# Altium schematic symbol library SIM908.SCHLIB: 1 symbol
Pins are listed as number, name and electrical type; pins without a type are passive.

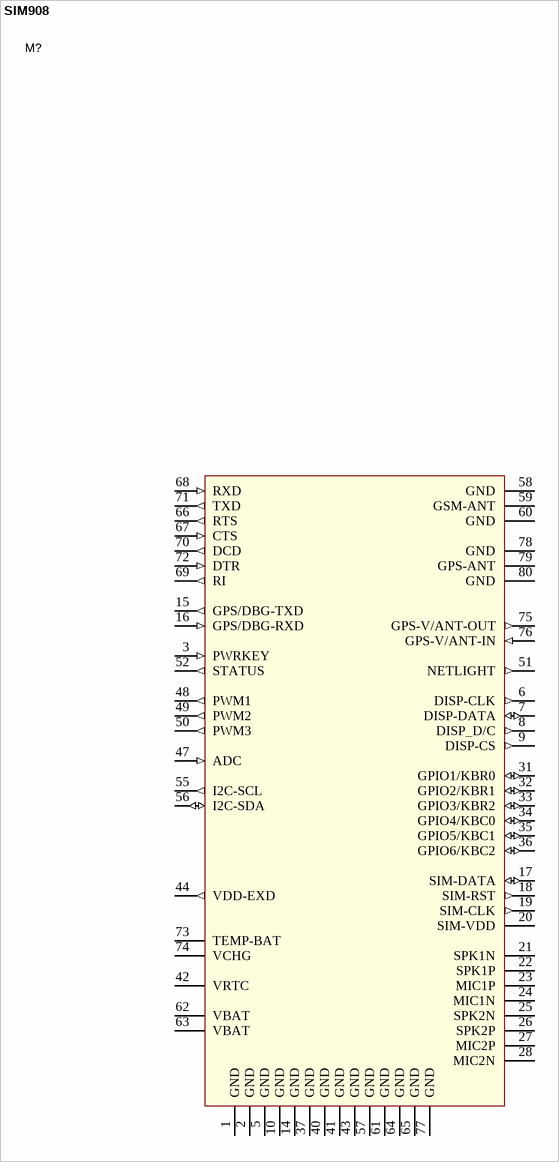
[diagram p0: symbol SIM908]

## SIM908
designator M?  (value not drawn)
footprint SIM-908
pins: 1 GND, 2 GND, 3 PWRKEY (in), 5 GND, 6 DISP-CLK (out), 7 DISP-DATA (io), 8 DISP_D/C (out), 9 DISP-CS (out), 10 GND, 14 GND, 15 GPS/DBG-TXD (out), 16 GPS/DBG-RXD (in), 17 SIM-DATA (io), 18 SIM-RST (out), 19 SIM-CLK (out), 20 SIM-VDD, 21 SPK1N, 22 SPK1P, 23 MIC1P, 24 MIC1N, 25 SPK2N, 26 SPK2P, 27 MIC2P, 28 MIC2N, 31 GPIO1/KBR0 (io), 32 GPIO2/KBR1 (io), 33 GPIO3/KBR2 (io), 34 GPIO4/KBC0 (io), 35 GPIO5/KBC1 (io), 36 GPIO6/KBC2 (io), 37 GND, 40 GND, 41 GND, 42 VRTC (power), 43 GND, 44 VDD-EXD (out), 47 ADC (in), 48 PWM1 (out), 49 PWM2 (out), 50 PWM3 (out), 51 NETLIGHT (out), 52 STATUS (out), 55 I2C-SCL (out), 56 I2C-SDA (io), 57 GND, 58 GND, 59 GSM-ANT, 60 GND, 61 GND, 62 VBAT (power), 63 VBAT (power), 64 GND, 65 GND, 66 RTS (out), 67 CTS (in), 68 RXD (in), 69 RI (out), 70 DCD (out), 71 TXD (out), 72 DTR (in), 73 TEMP-BAT, 74 VCHG, 75 GPS-V/ANT-OUT (out), 76 GPS-V/ANT-IN (in), 77 GND, 78 GND, 79 GPS-ANT, 80 GND